# Altium schematic symbol library JTAG_header_1761681-3.SchLib: 2 symbols
Pins are listed as number, name and electrical type; pins without a type are passive.

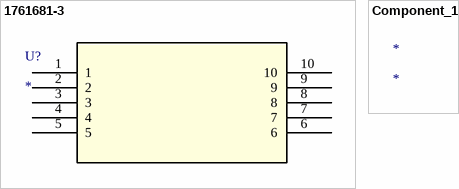
[diagram p0: symbols 1761681-3 to Component_1]

## 1761681-3
designator U?
No Description Available; Mfr_Name: TE Connectivity; RefDes: RefDes; Type: Type
footprint 1761681-3_TYC
pins: 1, 2, 3, 4, 5, 6, 7, 8, 9, 10

## Component_1
designator *